# EAGLE library part ICL8038 (library ic)
ICL8038: Waveform generator / VCO (Intersil) 36V, 1mHz-300kHz
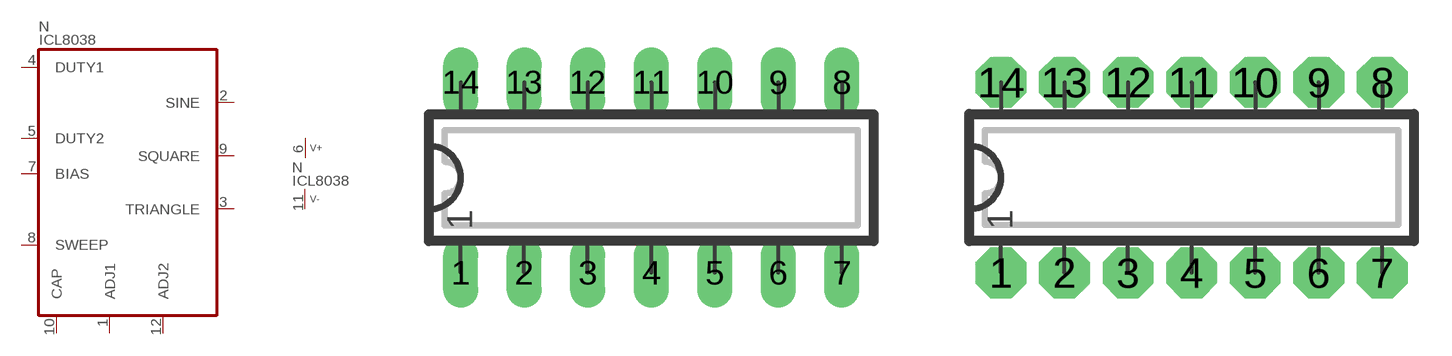
[diagram p112: symbol with the pads of DIP14L; footprints DIP14L, DIP14N]

Designator prefix N; gates  =ICL8038 P=V+-

## ICL8038  [DIP14L]
1   :ADJ1
2   :SINE  out
3   :TRIANGLE  out
4   :DUTY1
5   :DUTY2
6  P:V+  pwr
7   :BIAS
8   :SWEEP
9   :SQUARE  out
10   :CAP  pas
11  P:V-  pwr
12   :ADJ2

## ICL8038L  [DIP14L]
Pads as for DIP14L

## ICL8038N  [DIP14N]
Pads as for DIP14L

## ICL8038R  [DIP14R]
Pads as for DIP14L

## Footprint DIP14L (pad centres in mm)
DIP-14, long pads Standard IC package, 14 pins
drill 0.813 pad 1.397 long: 1 -7.62,-3.81; 2 -5.08,-3.81; 3 -2.54,-3.81; 4 0,-3.81; 5 2.54,-3.81; 6 5.08,-3.81; 7 7.62,-3.81; 8 7.62,3.81; 9 5.08,3.81; 10 2.54,3.81; 11 0,3.81; 12 -2.54,3.81; 13 -5.08,3.81; 14 -7.62,3.81

## Footprint DIP14N (pad centres in mm)
DIP-14 Standard IC package, 14 pins
drill 0.813 pad 2.032 octagon: 1 -7.62,-3.81; 2 -5.08,-3.81; 3 -2.54,-3.81; 4 0,-3.81; 5 2.54,-3.81; 6 5.08,-3.81; 7 7.62,-3.81; 8 7.62,3.81; 9 5.08,3.81; 10 2.54,3.81; 11 0,3.81; 12 -2.54,3.81; 13 -5.08,3.81; 14 -7.62,3.81

## Footprint DIP14R (pad centres in mm)
DIP-14, reduced pads Standard IC package, 14 pins
drill 0.813 pad 1.397 square: 1 -7.62,-3.81; 2 -5.08,-3.81; 3 -2.54,-3.81; 4 0,-3.81; 5 2.54,-3.81; 6 5.08,-3.81; 7 7.62,-3.81; 8 7.62,3.81; 9 5.08,3.81; 10 2.54,3.81; 11 0,3.81; 12 -2.54,3.81; 13 -5.08,3.81; 14 -7.62,3.81